# Altium footprint library Power_Supply.PcbLib: 4 footprints
Each footprint in its own frame and in the unit in brackets; x right, y up, seen from the top. Pads: shape width x height; smd on the part's side, far side on the other; paste and mask are expansions set on the pad; w line width, h text height; cw(c..) or ccw(c..) is an arc to the next point about the centre after c.
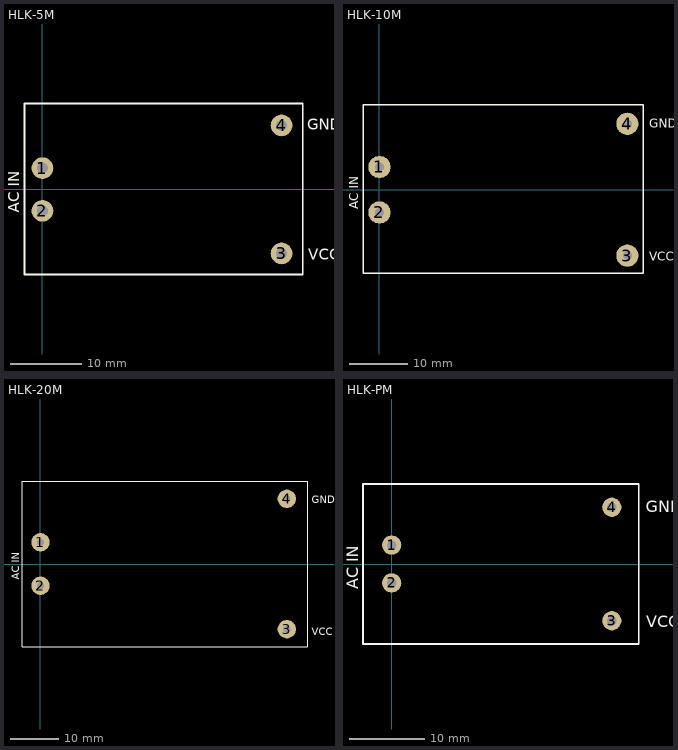
[diagram p0: the footprints below, top view; thin cyan lines are the x and y axes]

## HLK-5M [mil]
pads (4):
  round 120 hole 60: 1(0,118.11) 2(0,-118.11) 3(1322.84,-354.33) 4(1322.83,354.33)
Top Overlay:
  lines w10: -100,-470 1440,-470 1440,475 -100,475 -100,-470
  text "GND" at 1465,330 h60
  text "VCC" at 1470,-390 h60
  text "AC IN" at -130,-130 h60
3D body "User Library-hilink5M.step": height 709.05, standoff -196.85, extent -78.03,-447.76 1418.03,457.76

## HLK-10M [mm]
pads (4):
  round 3.81 hole 1.524: 1(0,3.9) 2(0,-3.9) 3(42.5,-11.3) 4(42.5,11.3)
Top Overlay:
  lines w0.254: -2.794,-14.351 -2.794,14.605 45.212,14.605 45.212,-14.351 -2.794,-14.351
  text "VCC" at 46.228,-12.192 h1.52
  text "GND" at 46.228,10.668 h1.52
  text "AC IN" at -3.683,-3.302 h1.52
3D body "User Library-hilink10M.STEP": height 21.81, standoff -5, extent -2.196,-13.773 44.704,14.027

## HLK-20M [mm]
pads (4):
  round 3.81 hole 1.524: 1(0,4.5) 2(0,-4.5) 3(51,-13.5) 4(51,13.5)
Top Overlay:
  lines w0.254: -3.81,-17.145 55.245,-17.145 55.245,17.145 -3.81,17.145 -3.81,-17.145
  text "GND" at 56.134,12.573 h1.52
  text "VCC" at 56.134,-14.732 h1.52
  text "AC IN" at -4.445,-3.302 h1.52
3D body "User Library-hilink20M.step": height 22.51, standoff -5, extent -3.025,-16.49 53.975,16.51

## HLK-PM [mm]
pads (4):
  round 2.54 hole 1.27: 1(0,2.5) 2(0,-2.5) 3(29.08,-7.5) 4(29.08,7.5)
Top Overlay:
  lines w0.254: -3.81,-10.541 -3.81,10.541 32.639,10.541 32.639,-10.541 -3.81,-10.541
  text "AC IN" at -4.445,-3.302 h1.52
  text "VCC" at 33.655,-8.382 h1.52
  text "GND" at 33.528,6.858 h1.52